# EAGLE library part TAKT_SWITCH_SKQUCA (library KaiBader)
ALPS SKQUCAA010 SKQU Multi Control Devices TACT Switch 10 mm 4-directional with Center Push (SMD & Snap-in) Type CC-BY-SA 4.0 Kai Christian Bader
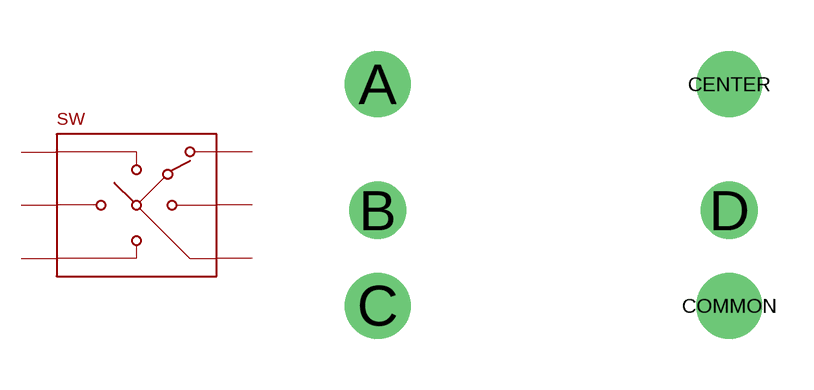
[diagram p9: symbol with the pads of TAKT_SWITCH_SKQUCA; footprint TAKT_SWITCH_SKQUCA]

Designator prefix SW

## TAKT_SWITCH_SKQUCA  [TAKT_SWITCH_SKQUCA]
A  A
B  B
C  C
CENTER  CENTER
COMMON  COMMON
D  D

## Footprint TAKT_SWITCH_SKQUCA (pad centres in mm)
drill 1.2 pad 1.93: A 0,6.5; C 0,0; CENTER 10.3,6.5; COMMON 10.3,0
drill 1 pad 1.676: B 0,2.8; D 10.3,2.8